# Altium integrated library NEC Microcontroller 32-Bit ARM.IntLib: 3 symbols
Pins are listed as number, name and electrical type; pins without a type are passive.

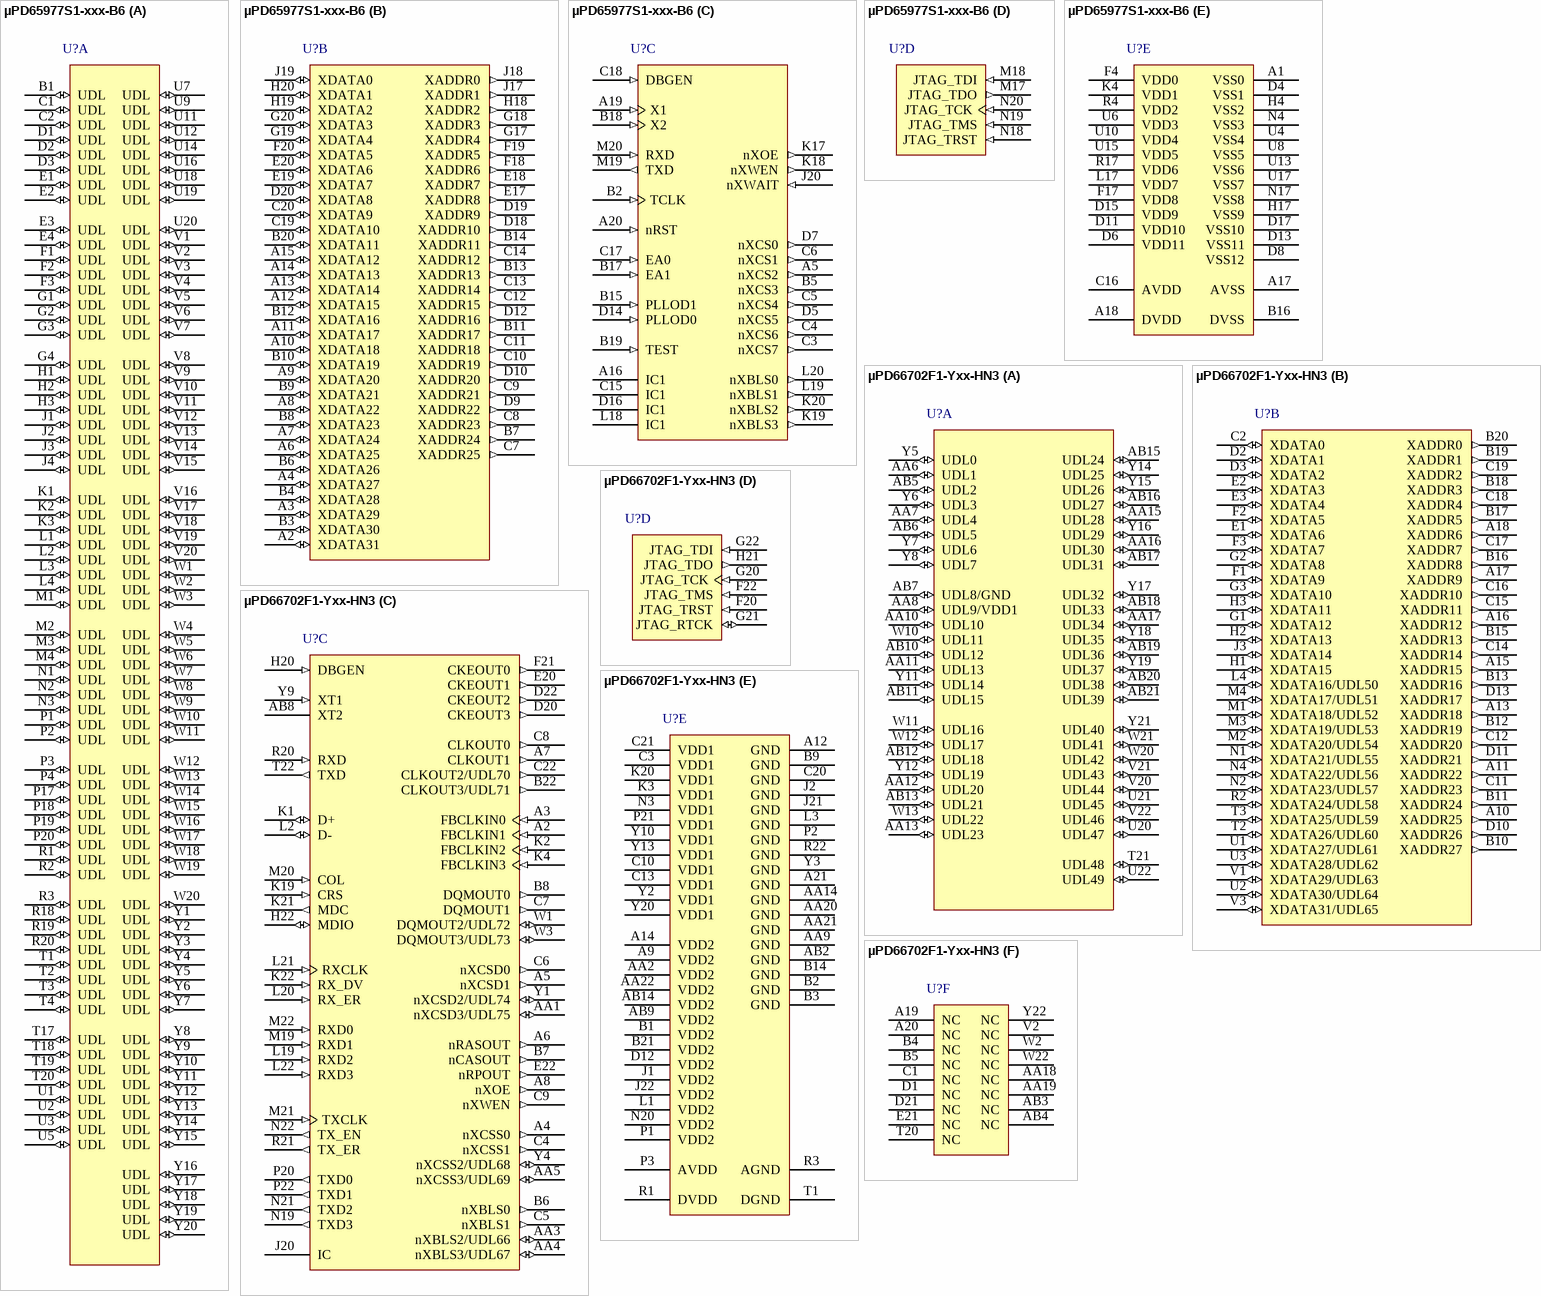
[diagram p0: symbols µPD65977S1-xxx-B6 to µPD66702F1-Yxx-HN3]

## µPD65977S1-xxx-B6
designator U?
SoCLite ARM7TDMI based 32-Bit RISC CPU, 2KB ROM, 8KB RAM, 256-pin PBGA; Published: 30-Mar-2007; DatasheetVersion: Jul-2002; PackageVersion: Jul-2002; PackageReference: S256S1-127-B6-2; Publisher: Altium Limited; PackageDescription: 256-Ball Plastic Thermally Enhanced Ball Grid Array; ComponentLink1Description: Manufacturer Link; ComponentLink1URL: http://www.necel.com/; ComponentLink2Description: Datasheet; ComponentLink2URL: http://www.eu.necel.com/_pdf/A15647EE2V0DS00.PDF
footprint S256S1-127-B6-2 (BGA, 256-Leads, Body 27x27mm, Pitch 1.27mm)
part A pins: B1 UDL (io), C1 UDL (io), C2 UDL (io), D1 UDL (io), D2 UDL (io), D3 UDL (io), E1 UDL (io), E2 UDL (io), E3 UDL (io), E4 UDL (io), F1 UDL (io), F2 UDL (io), F3 UDL (io), G1 UDL (io), G2 UDL (io), G3 UDL (io), G4 UDL (io), H1 UDL (io), H2 UDL (io), H3 UDL (io), J1 UDL (io), J2 UDL (io), J3 UDL (io), J4 UDL (io), K1 UDL (io), K2 UDL (io), K3 UDL (io), L1 UDL (io), L2 UDL (io), L3 UDL (io), L4 UDL (io), M1 UDL (io), M2 UDL (io), M3 UDL (io), M4 UDL (io), N1 UDL (io), N2 UDL (io), N3 UDL (io), P1 UDL (io), P2 UDL (io), P3 UDL (io), P4 UDL (io), P17 UDL (io), P18 UDL (io), P19 UDL (io), P20 UDL (io), R1 UDL (io), R2 UDL (io), R3 UDL (io), R18 UDL (io), R19 UDL (io), R20 UDL (io), T1 UDL (io), T2 UDL (io), T3 UDL (io), T4 UDL (io), T17 UDL (io), T18 UDL (io), T19 UDL (io), T20 UDL (io), U1 UDL (io), U2 UDL (io), U3 UDL (io), U5 UDL (io), U7 UDL (io), U9 UDL (io), U11 UDL (io), U12 UDL (io), U14 UDL (io), U16 UDL (io), U18 UDL (io), U19 UDL (io), U20 UDL (io), V1 UDL (io), V2 UDL (io), V3 UDL (io), V4 UDL (io), V5 UDL (io), V6 UDL (io), V7 UDL (io), V8 UDL (io), V9 UDL (io), V10 UDL (io), V11 UDL (io), V12 UDL (io), V13 UDL (io), V14 UDL (io), V15 UDL (io), V16 UDL (io), V17 UDL (io), V18 UDL (io), V19 UDL (io), V20 UDL (io), W1 UDL (io), W2 UDL (io), W3 UDL (io), W4 UDL (io), W5 UDL (io), W6 UDL (io), W7 UDL (io), W8 UDL (io), W9 UDL (io), W10 UDL (io), W11 UDL (io), W12 UDL (io), W13 UDL (io), W14 UDL (io), W15 UDL (io), W16 UDL (io), W17 UDL (io), W18 UDL (io), W19 UDL (io), W20 UDL (io), Y1 UDL (io), Y2 UDL (io), Y3 UDL (io), Y4 UDL (io), Y5 UDL (io), Y6 UDL (io), Y7 UDL (io), Y8 UDL (io), Y9 UDL (io), Y10 UDL (io), Y11 UDL (io), Y12 UDL (io), Y13 UDL (io), Y14 UDL (io), Y15 UDL (io), Y16 UDL (io), Y17 UDL (io), Y18 UDL (io), Y19 UDL (io), Y20 UDL (io)
part B pins: A2 XDATA31 (io), A3 XDATA29 (io), A4 XDATA27 (io), A6 XDATA25 (io), A7 XDATA24 (io), A8 XDATA22 (io), A9 XDATA20 (io), A10 XDATA18 (io), A11 XDATA17 (io), A12 XDATA15 (io), A13 XDATA14 (io), A14 XDATA13 (io), A15 XDATA12 (io), B3 XDATA30 (io), B4 XDATA28 (io), B6 XDATA26 (io), B7 XADDR24 (out), B8 XDATA23 (io), B9 XDATA21 (io), B10 XDATA19 (io), B11 XADDR17 (out), B12 XDATA16 (io), B13 XADDR13 (out), B14 XADDR11 (out), B20 XDATA11 (io), C7 XADDR25 (out), C8 XADDR23 (out), C9 XADDR21 (out), C10 XADDR19 (out), C11 XADDR18 (out), C12 XADDR15 (out), C13 XADDR14 (out), C14 XADDR12 (out), C19 XDATA10 (io), C20 XDATA9 (io), D9 XADDR22 (out), D10 XADDR20 (out), D12 XADDR16 (out), D18 XADDR10 (out), D19 XADDR9 (out), D20 XDATA8 (io), E17 XADDR8 (out), E18 XADDR7 (out), E19 XDATA7 (io), E20 XDATA6 (io), F18 XADDR6 (out), F19 XADDR5 (out), F20 XDATA5 (io), G17 XADDR4 (out), G18 XADDR3 (out), G19 XDATA4 (io), G20 XDATA3 (io), H18 XADDR2 (out), H19 XDATA2 (io), H20 XDATA1 (io), J17 XADDR1 (out), J18 XADDR0 (out), J19 XDATA0 (io)
part C pins: A5 nXCS2 (out), A16 IC1 "Not connected, leave pin open.", A19 X1 (in), A20 nRST (in), B2 TCLK (in), B5 nXCS3 (out), B15 PLLOD1 (in), B17 EA1 (in), B18 X2 (in), B19 TEST (in) "For internal use only, must be pulled low always.", C3 nXCS7 (out), C4 nXCS6 (out), C5 nXCS4 (out), C6 nXCS1 (out), C15 IC1 "Not connected, leave pin open.", C17 EA0 (in), C18 DBGEN (in), D5 nXCS5 (out), D7 nXCS0 (out), D14 PLLOD0 (in), D16 IC1 "Not connected, leave pin open.", J20 nXWAIT (in), K17 nXOE (out), K18 nXWEN (out), K19 nXBLS3 (out), K20 nXBLS2 (out), L18 IC1 "Not connected, leave pin open.", L19 nXBLS1 (out), L20 nXBLS0 (out), M19 TXD (out), M20 RXD (in)
part D pins: M17 JTAG_TDO (out), M18 JTAG_TDI (in), N18 JTAG_TRST (in), N19 JTAG_TMS (in), N20 JTAG_TCK (in)
part E pins: A1 VSS0 (power), A17 AVSS (power), A18 DVDD (power), B16 DVSS (power), C16 AVDD (power), D4 VSS1 (power), D6 VDD11 (power), D8 VSS12 (power), D11 VDD10 (power), D13 VSS11 (power), D15 VDD9 (power), D17 VSS10 (power), F4 VDD0 (power), F17 VDD8 (power), H4 VSS2 (power), H17 VSS9 (power), K4 VDD1 (power), L17 VDD7 (power), N4 VSS3 (power), N17 VSS8 (power), R4 VDD2 (power), R17 VDD6 (power), U4 VSS4 (power), U6 VDD3 (power), U8 VSS5 (power), U10 VDD4 (power), U13 VSS6 (power), U15 VDD5 (power), U17 VSS7 (power)

## µPD66702F1-Yxx-HN3
designator U?
ARM7TDMI-S based 32-Bit RISC CPU, 250,000 raw gates, 3KB ROM, 8KB RAM, 240-pin FPBGA; Published: 12-Dec-2006; DatasheetVersion: Jul-2005; PackageVersion: Jul-2005; PackageReference: P240F1-80-HN3; Publisher: Altium Limited; PackageDescription: 240-Ball Plastic Ball Grid Array 0.8 mm Pitch; ComponentLink1Description: Manufacturer Link; ComponentLink1URL: http://www.necel.com/; ComponentLink2Description: Datasheet; ComponentLink2URL: http://www.eu.necel.com/_pdf/A17364EE1V1DS00.PDF
footprint P240F1-80-HN3 (BGA, 240-Leads, Body 19x19mm, Pitch 0.8mm)
part A pins: AA6 UDL1 (io), AA7 UDL4 (io), AA8 UDL9/VDD1 (io) "VDD1, if internal oscillator is used", AA10 UDL10 (io), AA11 UDL13 (io), AA12 UDL20 (io), AA13 UDL23 (io), AA15 UDL28 (io), AA16 UDL30 (io), AA17 UDL34 (io), AB5 UDL2 (io), AB6 UDL5 (io), AB7 UDL8/GND (io) "GND, if internal oscillator is used", AB10 UDL12 (io), AB11 UDL15 (io), AB12 UDL18 (io), AB13 UDL21 (io), AB15 UDL24 (io), AB16 UDL27 (io), AB17 UDL31 (io), AB18 UDL33 (io), AB19 UDL36 (io), AB20 UDL38 (io), AB21 UDL39 (io), T21 UDL48 (io), U20 UDL47 (io), U21 UDL45 (io), U22 UDL49 (io), V20 UDL44 (io), V21 UDL43 (io), V22 UDL46 (io), W10 UDL11 (io), W11 UDL16 (io), W12 UDL17 (io), W13 UDL22 (io), W20 UDL42 (io), W21 UDL41 (io), Y5 UDL0 (io), Y6 UDL3 (io), Y7 UDL6 (io), Y8 UDL7 (io), Y11 UDL14 (io), Y12 UDL19 (io), Y14 UDL25 (io), Y15 UDL26 (io), Y16 UDL29 (io), Y17 UDL32 (io), Y18 UDL35 (io), Y19 UDL37 (io), Y21 UDL40 (io)
part B pins: A10 XADDR25 (out), A11 XADDR22 (out), A13 XADDR18 (out), A15 XADDR15 (out), A16 XADDR12 (out), A17 XADDR9 (out), A18 XADDR6 (out), B10 XADDR27 (out), B11 XADDR24 (out), B12 XADDR19 (out), B13 XADDR16 (out), B15 XADDR13 (out), B16 XADDR8 (out), B17 XADDR5 (out), B18 XADDR3 (out), B19 XADDR1 (out), B20 XADDR0 (out), C2 XDATA0 (io), C11 XADDR23 (out), C12 XADDR20 (out), C14 XADDR14 (out), C15 XADDR11 (out), C16 XADDR10 (out), C17 XADDR7 (out), C18 XADDR4 (out), C19 XADDR2 (out), D2 XDATA1 (io), D3 XDATA2 (io), D10 XADDR26 (out), D11 XADDR21 (out), D13 XADDR17 (out), E1 XDATA6 (io), E2 XDATA3 (io), E3 XDATA4 (io), F1 XDATA9 (io), F2 XDATA5 (io), F3 XDATA7 (io), G1 XDATA12 (io), G2 XDATA8 (io), G3 XDATA10 (io), H1 XDATA15 (io), H2 XDATA13 (io), H3 XDATA11 (io), J3 XDATA14 (io), L4 XDATA16/UDL50 (io), M1 XDATA18/UDL52 (io), M2 XDATA20/UDL54 (io), M3 XDATA19/UDL53 (io), M4 XDATA17/UDL51 (io), N1 XDATA21/UDL55 (io), N2 XDATA23/UDL57 (io), N4 XDATA22/UDL56 (io), R2 XDATA24/UDL58 (io), T2 XDATA26/UDL60 (io), T3 XDATA25/UDL59 (io), U1 XDATA27/UDL61 (io), U2 XDATA30/UDL64 (io), U3 XDATA28/UDL62 (io), V1 XDATA29/UDL63 (io), V3 XDATA31/UDL65 (io)
part C pins: A2 FBCLKIN1 (in), A3 FBCLKIN0 (in), A4 nXCSS0 (out), A5 nXCSD1 (out), A6 nRASOUT (out), A7 CLKOUT1 (out), A8 nXOE (out), AA1 nXCSD3/UDL75 (io) "Output, if not configured as UDL pin", AA3 nXBLS2/UDL66 (io) "Output, if not configured as UDL pin", AA4 nXBLS3/UDL67 (io) "Output, if not configured as UDL pin", AA5 nXCSS3/UDL69 (io) "Output, if not configured as UDL pin", AB8 XT2, B6 nXBLS0 (out), B7 nCASOUT (out), B8 DQMOUT0 (out), B22 CLKOUT3/UDL71 (out) "Input if configured as UDL pin", C4 nXCSS1 (out), C5 nXBLS1 (out), C6 nXCSD0 (out), C7 DQMOUT1 (out), C8 CLKOUT0 (out), C9 nXWEN (out), C22 CLKOUT2/UDL70 (out) "Input if configured as UDL pin", D20 CKEOUT3 (out), D22 CKEOUT2 (out), E20 CKEOUT1 (out), E22 nRPOUT (out), F21 CKEOUT0 (out), H20 DBGEN (in), H22 MDIO (io), J20 IC "Internally connected, must always be pulled low.", K1 D+ (io), K2 FBCLKIN2 (in), K4 FBCLKIN3 (in), K19 CRS (in), K21 MDC (out), K22 RX_DV (in), L2 D- (io), L19 RXD2 (in), L20 RX_ER (in), L21 RXCLK (in), L22 RXD3 (in), M19 RXD1 (in), M20 COL (in), M21 TXCLK (in), M22 RXD0 (in), N19 TXD3 (out), N21 TXD2 (out), N22 TX_EN (out), P20 TXD0 (out), P22 TXD1 (out), R20 RXD (in), R21 TX_ER (out), T22 TXD (out), W1 DQMOUT2/UDL72 (io) "Output, if not configured as UDL pin", W3 DQMOUT3/UDL73 (io) "Output, if not configured as UDL pin", Y1 nXCSD2/UDL74 (io) "Output, if not configured as UDL pin", Y4 nXCSS2/UDL68 (io) "Output, if not configured as UDL pin", Y9 XT1 (in)
part D pins: F20 JTAG_TRST (in), F22 JTAG_TMS (in), G20 JTAG_TCK (in), G21 JTAG_RTCK (io), G22 JTAG_TDI (in), H21 JTAG_TDO (out)
part E pins: A9 VDD2 (power), A12 GND (power), A14 VDD2 (power), A21 GND (power), AA2 VDD2 (power), AA9 GND (power), AA14 GND (power), AA20 GND (power), AA21 GND (power), AA22 VDD2 (power), AB2 GND (power), AB9 VDD2 (power), AB14 VDD2 (power), B1 VDD2 (power), B2 GND (power), B3 GND (power), B9 GND (power), B14 GND (power), B21 VDD2 (power), C3 VDD1 (power), C10 VDD1 (power), C13 VDD1 (power), C20 GND (power), C21 VDD1 (power), D12 VDD2 (power), J1 VDD2 (power), J2 GND (power), J21 GND (power), J22 VDD2 (power), K3 VDD1 (power), K20 VDD1 (power), L1 VDD2 (power), L3 GND (power), N3 VDD1 (power), N20 VDD2 (power), P1 VDD2 (power), P2 GND (power), P3 AVDD (power), P21 VDD1 (power), R1 DVDD (power), R3 AGND (power), R22 GND (power), T1 DGND (power), Y2 VDD1 (power), Y3 GND (power), Y10 VDD1 (power), Y13 VDD1 (power), Y20 VDD1 (power)
part F pins: A19 NC, A20 NC, AA18 NC, AA19 NC, AB3 NC, AB4 NC, B4 NC, B5 NC, C1 NC, D1 NC, D21 NC, E21 NC, T20 NC, V2 NC, W2 NC, W22 NC, Y22 NC

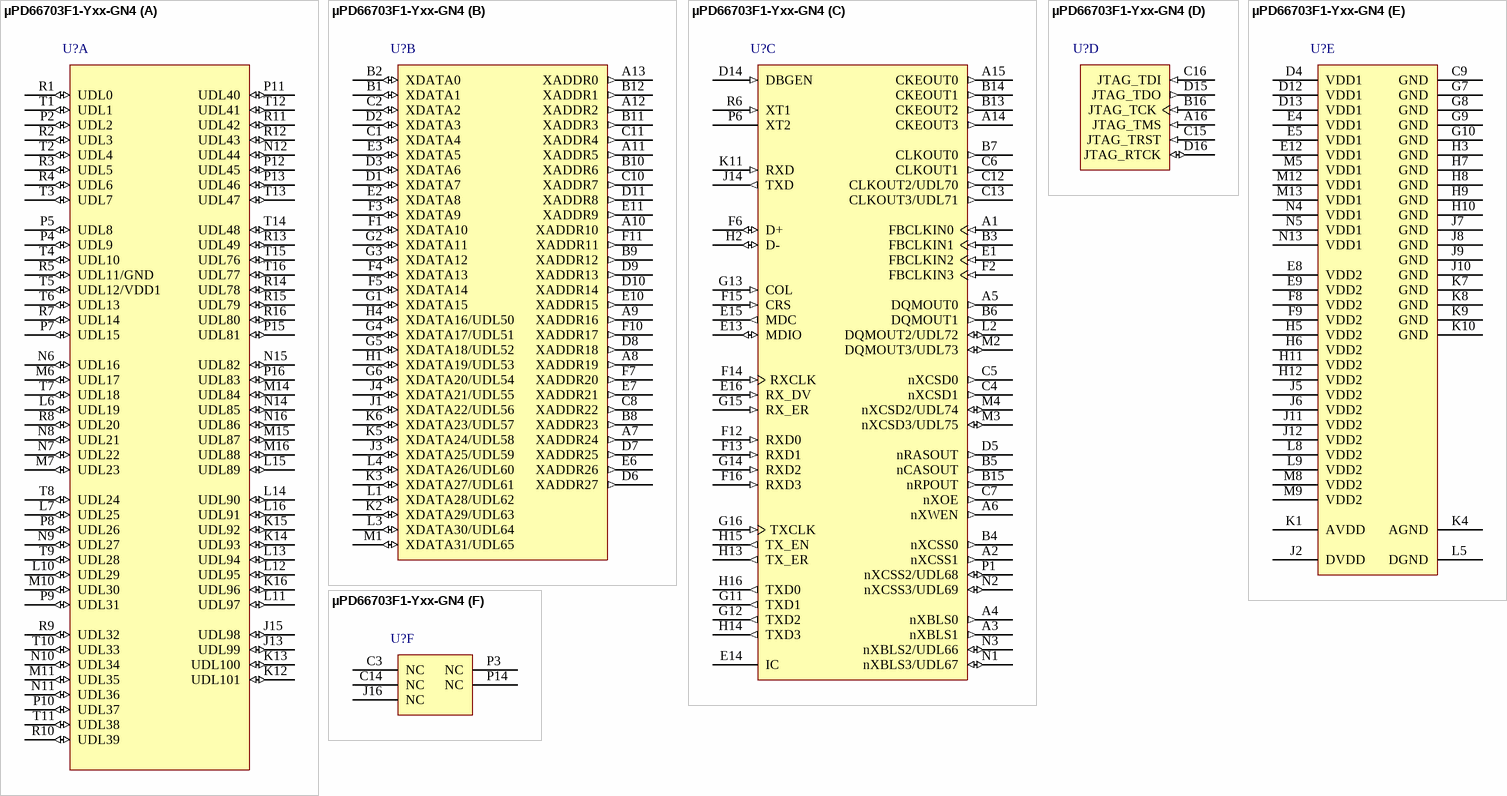
[diagram p1: symbol µPD66703F1-Yxx-GN4]

## µPD66703F1-Yxx-GN4
designator U?
ARM7TDMI-S based 32-Bit RISC CPU, 440,000 raw gates, 3KB ROM, 8KB RAM, 256-pin PBGA; Published: 12-Dec-2006; DatasheetVersion: Jul-2005; PackageVersion: Jul-2005; PackageReference: P256F1-100-GN4; Publisher: Altium Limited; PackageDescription: 256-Ball Plastic Ball Grid Array 1 mm Pitch; ComponentLink1Description: Manufacturer Link; ComponentLink1URL: http://www.necel.com/; ComponentLink2Description: Datasheet; ComponentLink2URL: http://www.eu.necel.com/_pdf/A17364EE1V1DS00.PDF
footprint P256F1-100-GN4 (BGA, 256-Leads, Body 17x17mm, Pitch 1mm)
part A pins: J13 UDL99 (io), J15 UDL98 (io), K12 UDL101 (io), K13 UDL100 (io), K14 UDL93 (io), K15 UDL92 (io), K16 UDL96 (io), L6 UDL19 (io), L7 UDL25 (io), L10 UDL29 (io), L11 UDL97 (io), L12 UDL95 (io), L13 UDL94 (io), L14 UDL90 (io), L15 UDL89 (io), L16 UDL91 (io), M6 UDL17 (io), M7 UDL23 (io), M10 UDL30 (io), M11 UDL35 (io), M14 UDL84 (io), M15 UDL87 (io), M16 UDL88 (io), N6 UDL16 (io), N7 UDL22 (io), N8 UDL21 (io), N9 UDL27 (io), N10 UDL34 (io), N11 UDL36 (io), N12 UDL44 (io), N14 UDL85 (io), N15 UDL82 (io), N16 UDL86 (io), P2 UDL2 (io), P4 UDL9 (io), P5 UDL8 (io), P7 UDL15 (io), P8 UDL26 (io), P9 UDL31 (io), P10 UDL37 (io), P11 UDL40 (io), P12 UDL45 (io), P13 UDL46 (io), P15 UDL81 (io), P16 UDL83 (io), R1 UDL0 (io), R2 UDL3 (io), R3 UDL5 (io), R4 UDL6 (io), R5 UDL11/GND (io) "GND, if internal oscillator is used", R7 UDL14 (io), R8 UDL20 (io), R9 UDL32 (io), R10 UDL39 (io), R11 UDL42 (io), R12 UDL43 (io), R13 UDL49 (io), R14 UDL78 (io), R15 UDL79 (io), R16 UDL80 (io), T1 UDL1 (io), T2 UDL4 (io), T3 UDL7 (io), T4 UDL10 (io), T5 UDL12/VDD1 (io) "VDD1, if internal oscillator is used", T6 UDL13 (io), T7 UDL18 (io), T8 UDL24 (io), T9 UDL28 (io), T10 UDL33 (io), T11 UDL38 (io), T12 UDL41 (io), T13 UDL47 (io), T14 UDL48 (io), T15 UDL76 (io), T16 UDL77 (io)
part B pins: A7 XADDR24 (out), A8 XADDR19 (out), A9 XADDR16 (out), A10 XADDR10 (out), A11 XADDR5 (out), A12 XADDR2 (out), A13 XADDR0 (out), B1 XDATA1 (io), B2 XDATA0 (io), B8 XADDR23 (out), B9 XADDR12 (out), B10 XADDR6 (out), B11 XADDR3 (out), B12 XADDR1 (out), C1 XDATA4 (io), C2 XDATA2 (io), C8 XADDR22 (out), C10 XADDR7 (out), C11 XADDR4 (out), D1 XDATA7 (io), D2 XDATA3 (io), D3 XDATA6 (io), D6 XADDR27 (out), D7 XADDR25 (out), D8 XADDR18 (out), D9 XADDR13 (out), D10 XADDR14 (out), D11 XADDR8 (out), E2 XDATA8 (io), E3 XDATA5 (io), E6 XADDR26 (out), E7 XADDR21 (out), E10 XADDR15 (out), E11 XADDR9 (out), F1 XDATA10 (io), F3 XDATA9 (io), F4 XDATA13 (io), F5 XDATA14 (io), F7 XADDR20 (out), F10 XADDR17 (out), F11 XADDR11 (out), G1 XDATA15 (io), G2 XDATA11 (io), G3 XDATA12 (io), G4 XDATA17/UDL51 (io), G5 XDATA18/UDL52 (io), G6 XDATA20/UDL54 (io), H1 XDATA19/UDL53 (io), H4 XDATA16/UDL50 (io), J1 XDATA22/UDL56 (io), J3 XDATA25/UDL59 (io), J4 XDATA21/UDL55 (io), K2 XDATA29/UDL63 (io), K3 XDATA27/UDL61 (io), K5 XDATA24/UDL58 (io), K6 XDATA23/UDL57 (io), L1 XDATA28/UDL62 (io), L3 XDATA30/UDL64 (io), L4 XDATA26/UDL60 (io), M1 XDATA31/UDL65 (io)
part C pins: A1 FBCLKIN0 (in), A2 nXCSS1 (out), A3 nXBLS1 (out), A4 nXBLS0 (out), A5 DQMOUT0 (out), A6 nXWEN (out), A14 CKEOUT3 (out), A15 CKEOUT0 (out), B3 FBCLKIN1 (in), B4 nXCSS0 (out), B5 nCASOUT (out), B6 DQMOUT1 (out), B7 CLKOUT0 (out), B13 CKEOUT2 (out), B14 CKEOUT1 (out), B15 nRPOUT (out), C4 nXCSD1 (out), C5 nXCSD0 (out), C6 CLKOUT1 (out), C7 nXOE (out), C12 CLKOUT2/UDL70 (out) "Input if configured as UDL pin", C13 CLKOUT3/UDL71 (out) "Input if configured as UDL pin", D5 nRASOUT (out), D14 DBGEN (in), E1 FBCLKIN2 (in), E13 MDIO (io), E14 IC "Internally connected, must always be pulled low.", E15 MDC (out), E16 RX_DV (in), F2 FBCLKIN3 (in), F6 D+ (io), F12 RXD0 (in), F13 RXD1 (in), F14 RXCLK (in), F15 CRS (in), F16 RXD3 (in), G11 TXD1 (out), G12 TXD2 (out), G13 COL (in), G14 RXD2 (in), G15 RX_ER (in), G16 TXCLK (in), H2 D- (io), H13 TX_ER (out), H14 TXD3 (out), H15 TX_EN (out), H16 TXD0 (out), J14 TXD (out), K11 RXD (in), L2 DQMOUT2/UDL72 (io) "Output, if not configured as UDL pin", M2 DQMOUT3/UDL73 (io) "Output, if not configured as UDL pin", M3 nXCSD3/UDL75 (io) "Output, if not configured as UDL pin", M4 nXCSD2/UDL74 (io) "Output, if not configured as UDL pin", N1 nXBLS3/UDL67 (io) "Output, if not configured as UDL pin", N2 nXCSS3/UDL69 (io) "Output, if not configured as UDL pin", N3 nXBLS2/UDL66 (io) "Output, if not configured as UDL pin", P1 nXCSS2/UDL68 (io) "Output, if not configured as UDL pin", P6 XT2, R6 XT1 (in)
part D pins: A16 JTAG_TMS (in), B16 JTAG_TCK (in), C15 JTAG_TRST (in), C16 JTAG_TDI (in), D15 JTAG_TDO (out), D16 JTAG_RTCK (io)
part E pins: C9 GND (power), D4 VDD1 (power), D12 VDD1 (power), D13 VDD1 (power), E4 VDD1 (power), E5 VDD1 (power), E8 VDD2 (power), E9 VDD2 (power), E12 VDD1 (power), F8 VDD2 (power), F9 VDD2 (power), G7 GND (power), G8 GND (power), G9 GND (power), G10 GND (power), H3 GND (power), H5 VDD2 (power), H6 VDD2 (power), H7 GND (power), H8 GND (power), H9 GND (power), H10 GND (power), H11 VDD2 (power), H12 VDD2 (power), J2 DVDD (power), J5 VDD2 (power), J6 VDD2 (power), J7 GND (power), J8 GND (power), J9 GND (power), J10 GND (power), J11 VDD2 (power), J12 VDD2 (power), K1 AVDD (power), K4 AGND (power), K7 GND (power), K8 GND (power), K9 GND (power), K10 GND (power), L5 DGND (power), L8 VDD2 (power), L9 VDD2 (power), M5 VDD1 (power), M8 VDD2 (power), M9 VDD2 (power), M12 VDD1 (power), M13 VDD1 (power), N4 VDD1 (power), N5 VDD1 (power), N13 VDD1 (power)
part F pins: C3 NC, C14 NC, J16 NC, P3 NC, P14 NC